# Altium integrated library ON Semi Transient Voltage Suppressors (TVS).IntLib: 730 symbols (part 3 of 17)
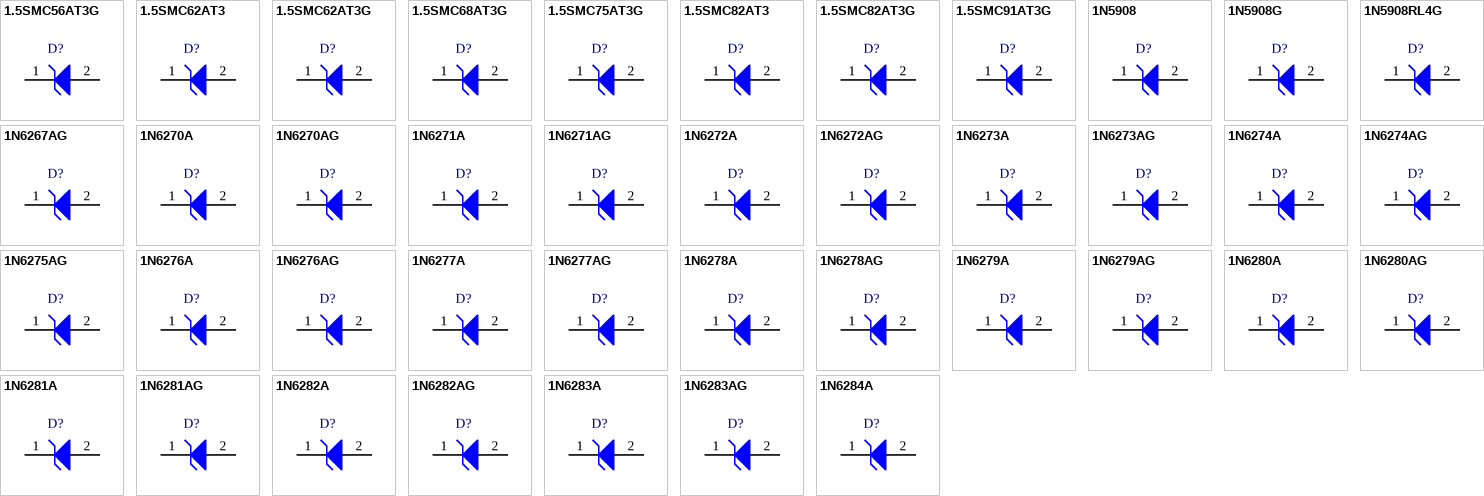
[diagram p20: symbols 1.5SMC56AT3G to 1N6284A]

## 1N6270AG
designator D?
1500 W Mosorb(TM) Zener Transient Voltage Suppressor, Unidirectional, 2-Pin MOSORB, Pb-Free, Bulk Box; Manufacturer: On Semiconductor; PartNumber: 1N6270AG; IR Max (uA): 50; PPK Max (W): 1500; V(BR) Typ (V): 9.1; DatasheetVersion: Rev. 7; PackageVersion: Rev. D, 01/2002; PackageReference: MOSORB-2-41A-04; PackageDescription: 2-Pin, Axial Lead, Diameter 5.05 mm; Supplier 1: Mouser; Supplier Part Number 1: N/A; Direction: Unidirectional; Packing: Bulk Box; RoHS: Pb-Free; Mounting Technology: Through Hole; ComponentLink1Description: Manufacturer URL; ComponentLink1URL: http://www.onsemi.com/; ComponentLink2Description: Datasheet; ComponentLink2URL: http://www.onsemi.com/pub_link/Collateral/1N6267A-D.PDF; ComponentLink3Description: Package Specification; ComponentLink3URL: http://www.onsemi.com/pub_link/Collateral/41A-04.PDF
footprint ONSC-MOSORB-2-41A-04 (AXIAL, 2-Leads, Diameter 5.05mm)
pins: 1 K, 2 A

## 1N6271A
designator D?
1500 W Mosorb(TM) Zener Transient Voltage Suppressor, Unidirectional, 2-Pin MOSORB, Bulk Box; Manufacturer: On Semiconductor; PartNumber: 1N6271A; IR Max (uA): 10; PPK Max (W): 1500; DatasheetVersion: Rev. 7; PackageVersion: Rev. D, 01/2002; PackageReference: MOSORB-2-41A-04; PackageDescription: 2-Pin, Axial Lead, Diameter 5.05 mm; Supplier 1: Digi-Key; Supplier Part Number 1: 1N6271AOS-ND; Direction: Unidirectional; Packing: Bulk Box; V(BR) Typ (V): 10; Mounting Technology: Through Hole; ComponentLink1Description: Manufacturer URL; ComponentLink1URL: http://www.onsemi.com/; ComponentLink2Description: Datasheet; ComponentLink2URL: http://www.onsemi.com/pub_link/Collateral/1N6267A-D.PDF; ComponentLink3Description: Package Specification; ComponentLink3URL: http://www.onsemi.com/pub_link/Collateral/41A-04.PDF
footprint ONSC-MOSORB-2-41A-04 (AXIAL, 2-Leads, Diameter 5.05mm)
pins: 1 K, 2 A

## 1N6271AG
designator D?
1500 W Mosorb(TM) Zener Transient Voltage Suppressor, Unidirectional, 2-Pin MOSORB, Pb-Free, Bulk Box; Manufacturer: On Semiconductor; PartNumber: 1N6271AG; IR Max (uA): 10; PPK Max (W): 1500; DatasheetVersion: Rev. 7; PackageVersion: Rev. D, 01/2002; PackageReference: MOSORB-2-41A-04; PackageDescription: 2-Pin, Axial Lead, Diameter 5.05 mm; Supplier 1: Digi-Key; Supplier Part Number 1: 1N6271AGOS-ND; Supplier 2: Mouser; Supplier Part Number 2: 863-1N6271AG; Direction: Unidirectional; Packing: Bulk Box; RoHS: Pb-Free; V(BR) Typ (V): 10; Mounting Technology: Through Hole; ComponentLink1Description: Manufacturer URL; ComponentLink1URL: http://www.onsemi.com/; ComponentLink2Description: Datasheet; ComponentLink2URL: http://www.onsemi.com/pub_link/Collateral/1N6267A-D.PDF; ComponentLink3Description: Package Specification; ComponentLink3URL: http://www.onsemi.com/pub_link/Collateral/41A-04.PDF
footprint ONSC-MOSORB-2-41A-04 (AXIAL, 2-Leads, Diameter 5.05mm)
pins: 1 K, 2 A

## 1N6272A
designator D?
1500 W Mosorb(TM) Zener Transient Voltage Suppressor, Unidirectional, 2-Pin MOSORB, Bulk Box; Manufacturer: On Semiconductor; PartNumber: 1N6272A; IR Max (uA): 5; PPK Max (W): 1500; V(BR) Typ (V): 11; DatasheetVersion: Rev. 7; PackageVersion: Rev. D, 01/2002; PackageReference: MOSORB-2-41A-04; PackageDescription: 2-Pin, Axial Lead, Diameter 5.05 mm; Supplier 1: Digi-Key; Supplier Part Number 1: 1N6272A-ND; Supplier 2: Newark; Supplier Part Number 2: 09F4680; Direction: Unidirectional; Packing: Bulk Box; Mounting Technology: Through Hole; ComponentLink1Description: Manufacturer URL; ComponentLink1URL: http://www.onsemi.com/; ComponentLink2Description: Datasheet; ComponentLink2URL: http://www.onsemi.com/pub_link/Collateral/1N6267A-D.PDF; ComponentLink3Description: Package Specification; ComponentLink3URL: http://www.onsemi.com/pub_link/Collateral/41A-04.PDF
footprint ONSC-MOSORB-2-41A-04 (AXIAL, 2-Leads, Diameter 5.05mm)
pins: 1 K, 2 A

## 1N6272AG
designator D?
1500 W Mosorb(TM) Zener Transient Voltage Suppressor, Unidirectional, 2-Pin MOSORB, Pb-Free, Bulk Box; Manufacturer: On Semiconductor; PartNumber: 1N6272AG; IR Max (uA): 5; PPK Max (W): 1500; V(BR) Typ (V): 11; DatasheetVersion: Rev. 7; PackageVersion: Rev. D, 01/2002; PackageReference: MOSORB-2-41A-04; PackageDescription: 2-Pin, Axial Lead, Diameter 5.05 mm; Supplier 1: Digi-Key; Supplier Part Number 1: 1N6272AG-ND; Supplier 2: Mouser; Supplier Part Number 2: 863-1N6272AG; Direction: Unidirectional; Packing: Bulk Box; RoHS: Pb-Free; Mounting Technology: Through Hole; ComponentLink1Description: Manufacturer URL; ComponentLink1URL: http://www.onsemi.com/; ComponentLink2Description: Datasheet; ComponentLink2URL: http://www.onsemi.com/pub_link/Collateral/1N6267A-D.PDF; ComponentLink3Description: Package Specification; ComponentLink3URL: http://www.onsemi.com/pub_link/Collateral/41A-04.PDF
footprint ONSC-MOSORB-2-41A-04 (AXIAL, 2-Leads, Diameter 5.05mm)
pins: 1 K, 2 A

## 1N6273A
designator D?
1500 W Mosorb(TM) Zener Transient Voltage Suppressor, Unidirectional, 2-Pin MOSORB, Bulk Box; Manufacturer: On Semiconductor; PartNumber: 1N6273A; IR Max (uA): 5; PPK Max (W): 1500; V(BR) Typ (V): 12; DatasheetVersion: Rev. 7; PackageVersion: Rev. D, 01/2002; PackageReference: MOSORB-2-41A-04; PackageDescription: 2-Pin, Axial Lead, Diameter 5.05 mm; Direction: Unidirectional; Packing: Bulk Box; Mounting Technology: Through Hole; ComponentLink1Description: Manufacturer URL; ComponentLink1URL: http://www.onsemi.com/; ComponentLink2Description: Datasheet; ComponentLink2URL: http://www.onsemi.com/pub_link/Collateral/1N6267A-D.PDF; ComponentLink3Description: Package Specification; ComponentLink3URL: http://www.onsemi.com/pub_link/Collateral/41A-04.PDF
footprint ONSC-MOSORB-2-41A-04 (AXIAL, 2-Leads, Diameter 5.05mm)
pins: 1 K, 2 A

## 1N6273AG
designator D?
1500 W Mosorb(TM) Zener Transient Voltage Suppressor, Unidirectional, 2-Pin MOSORB, Pb-Free, Bulk Box; Manufacturer: On Semiconductor; PartNumber: 1N6273AG; IR Max (uA): 5; PPK Max (W): 1500; V(BR) Typ (V): 12; DatasheetVersion: Rev. 7; PackageVersion: Rev. D, 01/2002; PackageReference: MOSORB-2-41A-04; PackageDescription: 2-Pin, Axial Lead, Diameter 5.05 mm; Direction: Unidirectional; Packing: Bulk Box; RoHS: Pb-Free; Mounting Technology: Through Hole; ComponentLink1Description: Manufacturer URL; ComponentLink1URL: http://www.onsemi.com/; ComponentLink2Description: Datasheet; ComponentLink2URL: http://www.onsemi.com/pub_link/Collateral/1N6267A-D.PDF; ComponentLink3Description: Package Specification; ComponentLink3URL: http://www.onsemi.com/pub_link/Collateral/41A-04.PDF
footprint ONSC-MOSORB-2-41A-04 (AXIAL, 2-Leads, Diameter 5.05mm)
pins: 1 K, 2 A

## 1N6274A
designator D?
1500 W Mosorb(TM) Zener Transient Voltage Suppressor, Unidirectional, 2-Pin MOSORB, Bulk Box; Manufacturer: On Semiconductor; PartNumber: 1N6274A; IR Max (uA): 5; PPK Max (W): 1500; V(BR) Typ (V): 13; DatasheetVersion: Rev. 7; PackageVersion: Rev. D, 01/2002; PackageReference: MOSORB-2-41A-04; PackageDescription: 2-Pin, Axial Lead, Diameter 5.05 mm; Supplier 1: Digi-Key; Supplier Part Number 1: 1N6274AOS-ND; Supplier 2: Mouser; Supplier Part Number 2: 863-1N6274A; Direction: Unidirectional; Packing: Bulk Box; Mounting Technology: Through Hole; ComponentLink1Description: Manufacturer URL; ComponentLink1URL: http://www.onsemi.com/; ComponentLink2Description: Datasheet; ComponentLink2URL: http://www.onsemi.com/pub_link/Collateral/1N6267A-D.PDF; ComponentLink3Description: Package Specification; ComponentLink3URL: http://www.onsemi.com/pub_link/Collateral/41A-04.PDF
footprint ONSC-MOSORB-2-41A-04 (AXIAL, 2-Leads, Diameter 5.05mm)
pins: 1 K, 2 A

## 1N6274AG
designator D?
1500 W Mosorb(TM) Zener Transient Voltage Suppressor, Unidirectional, 2-Pin MOSORB, Pb-Free, Bulk Box; Manufacturer: On Semiconductor; PartNumber: 1N6274AG; IR Max (uA): 5; PPK Max (W): 1500; V(BR) Typ (V): 13; DatasheetVersion: Rev. 7; PackageVersion: Rev. D, 01/2002; PackageReference: MOSORB-2-41A-04; PackageDescription: 2-Pin, Axial Lead, Diameter 5.05 mm; Supplier 1: Digi-Key; Supplier Part Number 1: 1N6274AGOS-ND; Supplier 2: Mouser; Supplier Part Number 2: 863-1N6274AG; Direction: Unidirectional; Packing: Bulk Box; RoHS: Pb-Free; Mounting Technology: Through Hole; ComponentLink1Description: Manufacturer URL; ComponentLink1URL: http://www.onsemi.com/; ComponentLink2Description: Datasheet; ComponentLink2URL: http://www.onsemi.com/pub_link/Collateral/1N6267A-D.PDF; ComponentLink3Description: Package Specification; ComponentLink3URL: http://www.onsemi.com/pub_link/Collateral/41A-04.PDF
footprint ONSC-MOSORB-2-41A-04 (AXIAL, 2-Leads, Diameter 5.05mm)
pins: 1 K, 2 A

## 1N6275AG
designator D?
1500 W Mosorb(TM) Zener Transient Voltage Suppressor, Unidirectional, 2-Pin MOSORB, Pb-Free, Bulk Box; Manufacturer: On Semiconductor; PartNumber: 1N6275AG; IR Max (uA): 5; PPK Max (W): 1500; V(BR) Typ (V): 15; DatasheetVersion: Rev. 13; PackageVersion: Rev. D, 01/2002; PackageReference: MOSORB-2-41A-04; PackageDescription: 2-Pin, Axial Lead, Diameter 5.05 mm; Supplier 1: Digi-Key; Supplier Part Number 1: 1N6275AGOS-ND; Supplier 2: Farnell; Supplier Part Number 2: 1458997; Supplier 3: Newark; Supplier Part Number 3: 42K3010; Supplier 4: Mouser; Supplier Part Number 4: 863-1N6275AG; Direction: Unidirectional; Packing: Bulk Box; RoHS: Pb-Free; Mounting Technology: Through Hole; ComponentLink1Description: Manufacturer URL; ComponentLink1URL: http://www.onsemi.com/; ComponentLink2Description: Datasheet; ComponentLink2URL: http://www.onsemi.com/pub_link/Collateral/1N6267A.PDF; ComponentLink3Description: Package Specification; ComponentLink3URL: http://www.onsemi.com/pub_link/Collateral/41A-04.PDF
footprint ONSC-MOSORB-2-41A-04 (AXIAL, 2-Leads, Diameter 5.05mm)
pins: 1 K, 2 A

## 1N6276A
designator D?
1500 W Mosorb(TM) Zener Transient Voltage Suppressor, Unidirectional, 2-Pin MOSORB, Bulk Box; Manufacturer: On Semiconductor; PartNumber: 1N6276A; IR Max (uA): 5; PPK Max (W): 1500; V(BR) Typ (V): 16; DatasheetVersion: Rev. 7; PackageVersion: Rev. D, 01/2002; PackageReference: MOSORB-2-41A-04; PackageDescription: 2-Pin, Axial Lead, Diameter 5.05 mm; Supplier 1: Digi-Key; Supplier Part Number 1: 1N6276AOS-ND; Direction: Unidirectional; Packing: Bulk Box; Mounting Technology: Through Hole; ComponentLink1Description: Manufacturer URL; ComponentLink1URL: http://www.onsemi.com/; ComponentLink2Description: Datasheet; ComponentLink2URL: http://www.onsemi.com/pub_link/Collateral/1N6267A-D.PDF; ComponentLink3Description: Package Specification; ComponentLink3URL: http://www.onsemi.com/pub_link/Collateral/41A-04.PDF
footprint ONSC-MOSORB-2-41A-04 (AXIAL, 2-Leads, Diameter 5.05mm)
pins: 1 K, 2 A

## 1N6276AG
designator D?
1500 W Mosorb(TM) Zener Transient Voltage Suppressor, Unidirectional, 2-Pin MOSORB, Pb-Free, Bulk Box; Manufacturer: On Semiconductor; PartNumber: 1N6276AG; IR Max (uA): 5; PPK Max (W): 1500; V(BR) Typ (V): 16; DatasheetVersion: Rev. 7; PackageVersion: Rev. D, 01/2002; PackageReference: MOSORB-2-41A-04; PackageDescription: 2-Pin, Axial Lead, Diameter 5.05 mm; Supplier 1: Digi-Key; Supplier Part Number 1: 1N6276AGOS-ND; Supplier 2: Farnell; Supplier Part Number 2: 1458998; Supplier 3: Newark; Supplier Part Number 3: 42K3012; Supplier 4: Mouser; Supplier Part Number 4: 863-1N6276AG; Direction: Unidirectional; Packing: Bulk Box; RoHS: Pb-Free; Mounting Technology: Through Hole; ComponentLink1Description: Manufacturer URL; ComponentLink1URL: http://www.onsemi.com/; ComponentLink2Description: Datasheet; ComponentLink2URL: http://www.onsemi.com/pub_link/Collateral/1N6267A-D.PDF; ComponentLink3Description: Package Specification; ComponentLink3URL: http://www.onsemi.com/pub_link/Collateral/41A-04.PDF
footprint ONSC-MOSORB-2-41A-04 (AXIAL, 2-Leads, Diameter 5.05mm)
pins: 1 K, 2 A

## 1N6277A
designator D?
1500 W Mosorb(TM) Zener Transient Voltage Suppressor, Unidirectional, 2-Pin MOSORB, Bulk Box; Manufacturer: On Semiconductor; PartNumber: 1N6277A; IR Max (uA): 5; PPK Max (W): 1500; V(BR) Typ (V): 18; DatasheetVersion: Rev. 7; PackageVersion: Rev. D, 01/2002; PackageReference: MOSORB-2-41A-04; PackageDescription: 2-Pin, Axial Lead, Diameter 5.05 mm; Supplier 1: Digi-Key; Supplier Part Number 1: 1N6277AOS-ND; Direction: Unidirectional; Packing: Bulk Box; Mounting Technology: Through Hole; ComponentLink1Description: Manufacturer URL; ComponentLink1URL: http://www.onsemi.com/; ComponentLink2Description: Datasheet; ComponentLink2URL: http://www.onsemi.com/pub_link/Collateral/1N6267A-D.PDF; ComponentLink3Description: Package Specification; ComponentLink3URL: http://www.onsemi.com/pub_link/Collateral/41A-04.PDF
footprint ONSC-MOSORB-2-41A-04 (AXIAL, 2-Leads, Diameter 5.05mm)
pins: 1 K, 2 A

## 1N6277AG
designator D?
1500 W Mosorb(TM) Zener Transient Voltage Suppressor, Unidirectional, 2-Pin MOSORB, Pb-Free, Bulk Box; Manufacturer: On Semiconductor; PartNumber: 1N6277AG; IR Max (uA): 5; PPK Max (W): 1500; V(BR) Typ (V): 18; DatasheetVersion: Rev. 7; PackageVersion: Rev. D, 01/2002; PackageReference: MOSORB-2-41A-04; PackageDescription: 2-Pin, Axial Lead, Diameter 5.05 mm; Supplier 1: Digi-Key; Supplier Part Number 1: 1N6277AGOS-ND; Supplier 2: Farnell; Supplier Part Number 2: 1458999; Supplier 3: Newark; Supplier Part Number 3: 42K3014; Supplier 4: Mouser; Supplier Part Number 4: 863-1N6277AG; Direction: Unidirectional; Packing: Bulk Box; RoHS: Pb-Free; Mounting Technology: Through Hole; ComponentLink1Description: Manufacturer URL; ComponentLink1URL: http://www.onsemi.com/; ComponentLink2Description: Datasheet; ComponentLink2URL: http://www.onsemi.com/pub_link/Collateral/1N6267A-D.PDF; ComponentLink3Description: Package Specification; ComponentLink3URL: http://www.onsemi.com/pub_link/Collateral/41A-04.PDF
footprint ONSC-MOSORB-2-41A-04 (AXIAL, 2-Leads, Diameter 5.05mm)
pins: 1 K, 2 A

## 1N6278A
designator D?
1500 W Mosorb(TM) Zener Transient Voltage Suppressor, Unidirectional, 2-Pin MOSORB, Bulk Box; Manufacturer: On Semiconductor; PartNumber: 1N6278A; IR Max (uA): 5; PPK Max (W): 1500; V(BR) Typ (V): 20; DatasheetVersion: Rev. 7; PackageVersion: Rev. D, 01/2002; PackageReference: MOSORB-2-41A-04; PackageDescription: 2-Pin, Axial Lead, Diameter 5.05 mm; Supplier 1: Digi-Key; Supplier Part Number 1: 1N6278A-ND; Direction: Unidirectional; Packing: Bulk Box; Mounting Technology: Through Hole; ComponentLink1Description: Manufacturer URL; ComponentLink1URL: http://www.onsemi.com/; ComponentLink2Description: Datasheet; ComponentLink2URL: http://www.onsemi.com/pub_link/Collateral/1N6267A-D.PDF; ComponentLink3Description: Package Specification; ComponentLink3URL: http://www.onsemi.com/pub_link/Collateral/41A-04.PDF
footprint ONSC-MOSORB-2-41A-04 (AXIAL, 2-Leads, Diameter 5.05mm)
pins: 1 K, 2 A

## 1N6278AG
designator D?
1500 W Mosorb(TM) Zener Transient Voltage Suppressor, Unidirectional, 2-Pin MOSORB, Pb-Free, Bulk Box; Manufacturer: On Semiconductor; PartNumber: 1N6278AG; IR Max (uA): 5; PPK Max (W): 1500; V(BR) Typ (V): 20; DatasheetVersion: Rev. 7; PackageVersion: Rev. D, 01/2002; PackageReference: MOSORB-2-41A-04; PackageDescription: 2-Pin, Axial Lead, Diameter 5.05 mm; Supplier 1: Digi-Key; Supplier Part Number 1: 1N6278AGOS-ND; Supplier 2: Newark; Supplier Part Number 2: 42K3016; Supplier 3: Mouser; Supplier Part Number 3: 863-1N6278AG; Direction: Unidirectional; Packing: Bulk Box; RoHS: Pb-Free; Mounting Technology: Through Hole; ComponentLink1Description: Manufacturer URL; ComponentLink1URL: http://www.onsemi.com/; ComponentLink2Description: Datasheet; ComponentLink2URL: http://www.onsemi.com/pub_link/Collateral/1N6267A-D.PDF; ComponentLink3Description: Package Specification; ComponentLink3URL: http://www.onsemi.com/pub_link/Collateral/41A-04.PDF
footprint ONSC-MOSORB-2-41A-04 (AXIAL, 2-Leads, Diameter 5.05mm)
pins: 1 K, 2 A

## 1N6279A
designator D?
1500 W Mosorb(TM) Zener Transient Voltage Suppressor, Unidirectional, 2-Pin MOSORB, Bulk Box; Manufacturer: On Semiconductor; PartNumber: 1N6279A; IR Max (uA): 5; PPK Max (W): 1500; V(BR) Typ (V): 22; DatasheetVersion: Rev. 7; PackageVersion: Rev. D, 01/2002; PackageReference: MOSORB-2-41A-04; PackageDescription: 2-Pin, Axial Lead, Diameter 5.05 mm; Supplier 1: Digi-Key; Supplier Part Number 1: 1N6279A-ND; Direction: Unidirectional; Packing: Bulk Box; Mounting Technology: Through Hole; ComponentLink1Description: Manufacturer URL; ComponentLink1URL: http://www.onsemi.com/; ComponentLink2Description: Datasheet; ComponentLink2URL: http://www.onsemi.com/pub_link/Collateral/1N6267A-D.PDF; ComponentLink3Description: Package Specification; ComponentLink3URL: http://www.onsemi.com/pub_link/Collateral/41A-04.PDF
footprint ONSC-MOSORB-2-41A-04 (AXIAL, 2-Leads, Diameter 5.05mm)
pins: 1 K, 2 A

## 1N6279AG
designator D?
1500 W Mosorb(TM) Zener Transient Voltage Suppressor, Unidirectional, 2-Pin MOSORB, Pb-Free, Bulk Box; Manufacturer: On Semiconductor; PartNumber: 1N6279AG; IR Max (uA): 5; PPK Max (W): 1500; V(BR) Typ (V): 22; DatasheetVersion: Rev. 7; PackageVersion: Rev. D, 01/2002; PackageReference: MOSORB-2-41A-04; PackageDescription: 2-Pin, Axial Lead, Diameter 5.05 mm; Supplier 1: Digi-Key; Supplier Part Number 1: 1N6279AGOS-ND; Supplier 2: Farnell; Supplier Part Number 2: 1136135; Supplier 3: Newark; Supplier Part Number 3: 42K3018; Supplier 4: Mouser; Supplier Part Number 4: 863-1N6279AG; Direction: Unidirectional; Packing: Bulk Box; RoHS: Pb-Free; Mounting Technology: Through Hole; ComponentLink1Description: Manufacturer URL; ComponentLink1URL: http://www.onsemi.com/; ComponentLink2Description: Datasheet; ComponentLink2URL: http://www.onsemi.com/pub_link/Collateral/1N6267A-D.PDF; ComponentLink3Description: Package Specification; ComponentLink3URL: http://www.onsemi.com/pub_link/Collateral/41A-04.PDF
footprint ONSC-MOSORB-2-41A-04 (AXIAL, 2-Leads, Diameter 5.05mm)
pins: 1 K, 2 A

## 1N6280A
designator D?
1500 W Mosorb(TM) Zener Transient Voltage Suppressor, Unidirectional, 2-Pin MOSORB, Bulk Box; Manufacturer: On Semiconductor; PartNumber: 1N6280A; IR Max (uA): 5; PPK Max (W): 1500; V(BR) Typ (V): 24; DatasheetVersion: Rev. 7; PackageVersion: Rev. D, 01/2002; PackageReference: MOSORB-2-41A-04; PackageDescription: 2-Pin, Axial Lead, Diameter 5.05 mm; Supplier 1: Digi-Key; Supplier Part Number 1: 1N6280AOS-ND; Supplier 2: Newark; Supplier Part Number 2: 09F4693; Direction: Unidirectional; Packing: Bulk Box; Mounting Technology: Through Hole; ComponentLink1Description: Manufacturer URL; ComponentLink1URL: http://www.onsemi.com/; ComponentLink2Description: Datasheet; ComponentLink2URL: http://www.onsemi.com/pub_link/Collateral/1N6267A-D.PDF; ComponentLink3Description: Package Specification; ComponentLink3URL: http://www.onsemi.com/pub_link/Collateral/41A-04.PDF
footprint ONSC-MOSORB-2-41A-04 (AXIAL, 2-Leads, Diameter 5.05mm)
pins: 1 K, 2 A

## 1N6280AG
designator D?
1500 W Mosorb(TM) Zener Transient Voltage Suppressor, Unidirectional, 2-Pin MOSORB, Pb-Free, Bulk Box; Manufacturer: On Semiconductor; PartNumber: 1N6280AG; IR Max (uA): 5; PPK Max (W): 1500; V(BR) Typ (V): 24; DatasheetVersion: Rev. 7; PackageVersion: Rev. D, 01/2002; PackageReference: MOSORB-2-41A-04; PackageDescription: 2-Pin, Axial Lead, Diameter 5.05 mm; Supplier 1: Digi-Key; Supplier Part Number 1: 1N6280AG-ND; Supplier 2: Mouser; Supplier Part Number 2: 863-1N6280AG; Direction: Unidirectional; Packing: Bulk Box; RoHS: Pb-Free; Mounting Technology: Through Hole; ComponentLink1Description: Manufacturer URL; ComponentLink1URL: http://www.onsemi.com/; ComponentLink2Description: Datasheet; ComponentLink2URL: http://www.onsemi.com/pub_link/Collateral/1N6267A-D.PDF; ComponentLink3Description: Package Specification; ComponentLink3URL: http://www.onsemi.com/pub_link/Collateral/41A-04.PDF
footprint ONSC-MOSORB-2-41A-04 (AXIAL, 2-Leads, Diameter 5.05mm)
pins: 1 K, 2 A

## 1N6281A
designator D?
1500 W Mosorb(TM) Zener Transient Voltage Suppressor, Unidirectional, 2-Pin MOSORB, Bulk Box; Manufacturer: On Semiconductor; PartNumber: 1N6281A; IR Max (uA): 5; PPK Max (W): 1500; V(BR) Typ (V): 27; DatasheetVersion: Rev. 7; PackageVersion: Rev. D, 01/2002; PackageReference: MOSORB-2-41A-04; PackageDescription: 2-Pin, Axial Lead, Diameter 5.05 mm; Supplier 1: Digi-Key; Supplier Part Number 1: 1N6281AOS-ND; Direction: Unidirectional; Packing: Bulk Box; Mounting Technology: Through Hole; ComponentLink1Description: Manufacturer URL; ComponentLink1URL: http://www.onsemi.com/; ComponentLink2Description: Datasheet; ComponentLink2URL: http://www.onsemi.com/pub_link/Collateral/1N6267A-D.PDF; ComponentLink3Description: Package Specification; ComponentLink3URL: http://www.onsemi.com/pub_link/Collateral/41A-04.PDF
footprint ONSC-MOSORB-2-41A-04 (AXIAL, 2-Leads, Diameter 5.05mm)
pins: 1 K, 2 A

## 1N6281AG
designator D?
1500 W Mosorb(TM) Zener Transient Voltage Suppressor, Unidirectional, 2-Pin MOSORB, Pb-Free, Bulk Box; Manufacturer: On Semiconductor; PartNumber: 1N6281AG; IR Max (uA): 5; PPK Max (W): 1500; V(BR) Typ (V): 27; DatasheetVersion: Rev. 7; PackageVersion: Rev. D, 01/2002; PackageReference: MOSORB-2-41A-04; PackageDescription: 2-Pin, Axial Lead, Diameter 5.05 mm; Supplier 1: Digi-Key; Supplier Part Number 1: 1N6281AGOS-ND; Supplier 2: Farnell; Supplier Part Number 2: 1126338; Supplier 3: Newark; Supplier Part Number 3: 42K3021; Supplier 4: Mouser; Supplier Part Number 4: 863-1N6281AG; Direction: Unidirectional; Packing: Bulk Box; RoHS: Pb-Free; Mounting Technology: Through Hole; ComponentLink1Description: Manufacturer URL; ComponentLink1URL: http://www.onsemi.com/; ComponentLink2Description: Datasheet; ComponentLink2URL: http://www.onsemi.com/pub_link/Collateral/1N6267A-D.PDF; ComponentLink3Description: Package Specification; ComponentLink3URL: http://www.onsemi.com/pub_link/Collateral/41A-04.PDF
footprint ONSC-MOSORB-2-41A-04 (AXIAL, 2-Leads, Diameter 5.05mm)
pins: 1 K, 2 A

## 1N6282A
designator D?
1500 W Mosorb(TM) Zener Transient Voltage Suppressor, Unidirectional, 2-Pin MOSORB, Bulk Box; Manufacturer: On Semiconductor; PartNumber: 1N6282A; IR Max (uA): 5; PPK Max (W): 1500; V(BR) Typ (V): 30; DatasheetVersion: Rev. 7; PackageVersion: Rev. D, 01/2002; PackageReference: MOSORB-2-41A-04; PackageDescription: 2-Pin, Axial Lead, Diameter 5.05 mm; Supplier 1: Digi-Key; Supplier Part Number 1: 1N6282AOS-ND; Direction: Unidirectional; Packing: Bulk Box; Mounting Technology: Through Hole; ComponentLink1Description: Manufacturer URL; ComponentLink1URL: http://www.onsemi.com/; ComponentLink2Description: Datasheet; ComponentLink2URL: http://www.onsemi.com/pub_link/Collateral/1N6267A-D.PDF; ComponentLink3Description: Package Specification; ComponentLink3URL: http://www.onsemi.com/pub_link/Collateral/41A-04.PDF
footprint ONSC-MOSORB-2-41A-04 (AXIAL, 2-Leads, Diameter 5.05mm)
pins: 1 K, 2 A

## 1N6282AG
designator D?
1500 W Mosorb(TM) Zener Transient Voltage Suppressor, Unidirectional, 2-Pin MOSORB, Pb-Free, Bulk Box; Manufacturer: On Semiconductor; PartNumber: 1N6282AG; IR Max (uA): 5; PPK Max (W): 1500; V(BR) Typ (V): 30; DatasheetVersion: Rev. 7; PackageVersion: Rev. D, 01/2002; PackageReference: MOSORB-2-41A-04; PackageDescription: 2-Pin, Axial Lead, Diameter 5.05 mm; Supplier 1: Digi-Key; Supplier Part Number 1: 1N6282AGOS-ND; Supplier 2: Farnell; Supplier Part Number 2: 1459000; Supplier 3: Newark; Supplier Part Number 3: 42K3023; Supplier 4: Mouser; Supplier Part Number 4: 863-1N6282AG; Direction: Unidirectional; Packing: Bulk Box; RoHS: Pb-Free; Mounting Technology: Through Hole; ComponentLink1Description: Manufacturer URL; ComponentLink1URL: http://www.onsemi.com/; ComponentLink2Description: Datasheet; ComponentLink2URL: http://www.onsemi.com/pub_link/Collateral/1N6267A-D.PDF; ComponentLink3Description: Package Specification; ComponentLink3URL: http://www.onsemi.com/pub_link/Collateral/41A-04.PDF
footprint ONSC-MOSORB-2-41A-04 (AXIAL, 2-Leads, Diameter 5.05mm)
pins: 1 K, 2 A

## 1N6283A
designator D?
1500 W Mosorb(TM) Zener Transient Voltage Suppressor, Unidirectional, 2-Pin MOSORB, Bulk Box; Manufacturer: On Semiconductor; PartNumber: 1N6283A; IR Max (uA): 5; PPK Max (W): 1500; V(BR) Typ (V): 33; DatasheetVersion: Rev. 7; PackageVersion: Rev. D, 01/2002; PackageReference: MOSORB-2-41A-04; PackageDescription: 2-Pin, Axial Lead, Diameter 5.05 mm; Supplier 1: Digi-Key; Supplier Part Number 1: 1N6283AOS-ND; Direction: Unidirectional; Packing: Bulk Box; Mounting Technology: Through Hole; ComponentLink1Description: Manufacturer URL; ComponentLink1URL: http://www.onsemi.com/; ComponentLink2Description: Datasheet; ComponentLink2URL: http://www.onsemi.com/pub_link/Collateral/1N6267A-D.PDF; ComponentLink3Description: Package Specification; ComponentLink3URL: http://www.onsemi.com/pub_link/Collateral/41A-04.PDF
footprint ONSC-MOSORB-2-41A-04 (AXIAL, 2-Leads, Diameter 5.05mm)
pins: 1 K, 2 A

## 1N6283AG
designator D?
1500 W Mosorb(TM) Zener Transient Voltage Suppressor, Unidirectional, 2-Pin MOSORB, Pb-Free, Bulk Box; Manufacturer: On Semiconductor; PartNumber: 1N6283AG; IR Max (uA): 5; PPK Max (W): 1500; V(BR) Typ (V): 33; DatasheetVersion: Rev. 7; PackageVersion: Rev. D, 01/2002; PackageReference: MOSORB-2-41A-04; PackageDescription: 2-Pin, Axial Lead, Diameter 5.05 mm; Supplier 1: Digi-Key; Supplier Part Number 1: 1N6283AGOS-ND; Supplier 2: Farnell; Supplier Part Number 2: 1459002; Supplier 3: Newark; Supplier Part Number 3: 42K3025; Supplier 4: Mouser; Supplier Part Number 4: 863-1N6283AG; Direction: Unidirectional; Packing: Bulk Box; RoHS: Pb-Free; Mounting Technology: Through Hole; ComponentLink1Description: Manufacturer URL; ComponentLink1URL: http://www.onsemi.com/; ComponentLink2Description: Datasheet; ComponentLink2URL: http://www.onsemi.com/pub_link/Collateral/1N6267A-D.PDF; ComponentLink3Description: Package Specification; ComponentLink3URL: http://www.onsemi.com/pub_link/Collateral/41A-04.PDF
footprint ONSC-MOSORB-2-41A-04 (AXIAL, 2-Leads, Diameter 5.05mm)
pins: 1 K, 2 A

## 1N6284A
designator D?
1500 W Mosorb(TM) Zener Transient Voltage Suppressor, Unidirectional, 2-Pin MOSORB, Bulk Box; Manufacturer: On Semiconductor; PartNumber: 1N6284A; IR Max (uA): 5; PPK Max (W): 1500; V(BR) Typ (V): 36; DatasheetVersion: Rev. 7; PackageVersion: Rev. D, 01/2002; PackageReference: MOSORB-2-41A-04; PackageDescription: 2-Pin, Axial Lead, Diameter 5.05 mm; Supplier 1: Digi-Key; Supplier Part Number 1: 1N6284AOS-ND; Direction: Unidirectional; Packing: Bulk Box; Mounting Technology: Through Hole; ComponentLink1Description: Manufacturer URL; ComponentLink1URL: http://www.onsemi.com/; ComponentLink2Description: Datasheet; ComponentLink2URL: http://www.onsemi.com/pub_link/Collateral/1N6267A-D.PDF; ComponentLink3Description: Package Specification; ComponentLink3URL: http://www.onsemi.com/pub_link/Collateral/41A-04.PDF
footprint ONSC-MOSORB-2-41A-04 (AXIAL, 2-Leads, Diameter 5.05mm)
pins: 1 K, 2 A

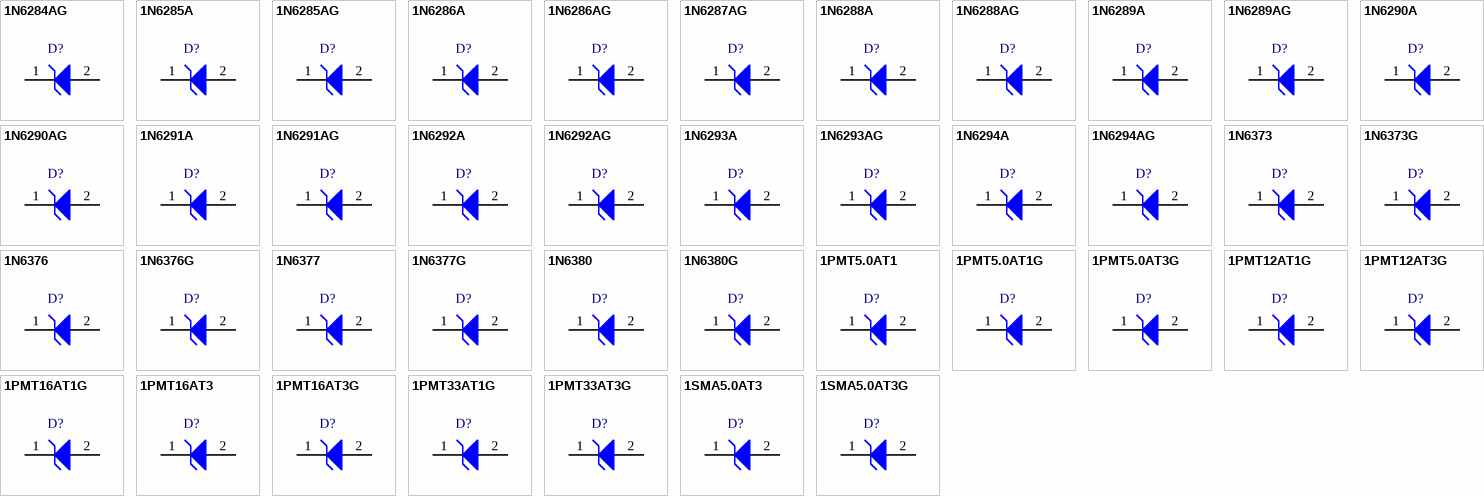
[diagram p3: symbols 1N6284AG to 1SMA5.0AT3G]

## 1N6284AG
designator D?
1500 W Mosorb(TM) Zener Transient Voltage Suppressor, Unidirectional, 2-Pin MOSORB, Pb-Free, Bulk Box; Manufacturer: On Semiconductor; PartNumber: 1N6284AG; IR Max (uA): 5; PPK Max (W): 1500; V(BR) Typ (V): 36; DatasheetVersion: Rev. 7; PackageVersion: Rev. D, 01/2002; PackageReference: MOSORB-2-41A-04; PackageDescription: 2-Pin, Axial Lead, Diameter 5.05 mm; Supplier 1: Digi-Key; Supplier Part Number 1: 1N6284AGOS-ND; Supplier 2: Farnell; Supplier Part Number 2: 1459003; Supplier 3: Newark; Supplier Part Number 3: 42K3027; Supplier 4: Mouser; Supplier Part Number 4: 863-1N6284AG; Direction: Unidirectional; Packing: Bulk Box; RoHS: Pb-Free; Mounting Technology: Through Hole; ComponentLink1Description: Manufacturer URL; ComponentLink1URL: http://www.onsemi.com/; ComponentLink2Description: Datasheet; ComponentLink2URL: http://www.onsemi.com/pub_link/Collateral/1N6267A-D.PDF; ComponentLink3Description: Package Specification; ComponentLink3URL: http://www.onsemi.com/pub_link/Collateral/41A-04.PDF
footprint ONSC-MOSORB-2-41A-04 (AXIAL, 2-Leads, Diameter 5.05mm)
pins: 1 K, 2 A

## 1N6285A
designator D?
1500 W Mosorb(TM) Zener Transient Voltage Suppressor, Unidirectional, 2-Pin MOSORB, Bulk Box; Manufacturer: On Semiconductor; PartNumber: 1N6285A; IR Max (uA): 5; PPK Max (W): 1500; V(BR) Typ (V): 39; DatasheetVersion: Rev. 7; PackageVersion: Rev. D, 01/2002; PackageReference: MOSORB-2-41A-04; PackageDescription: 2-Pin, Axial Lead, Diameter 5.05 mm; Supplier 1: Digi-Key; Supplier Part Number 1: 1N6285AOS-ND; Direction: Unidirectional; Packing: Bulk Box; Mounting Technology: Through Hole; ComponentLink1Description: Manufacturer URL; ComponentLink1URL: http://www.onsemi.com/; ComponentLink2Description: Datasheet; ComponentLink2URL: http://www.onsemi.com/pub_link/Collateral/1N6267A-D.PDF; ComponentLink3Description: Package Specification; ComponentLink3URL: http://www.onsemi.com/pub_link/Collateral/41A-04.PDF
footprint ONSC-MOSORB-2-41A-04 (AXIAL, 2-Leads, Diameter 5.05mm)
pins: 1 K, 2 A

## 1N6285AG
designator D?
1500 W Mosorb(TM) Zener Transient Voltage Suppressor, Unidirectional, 2-Pin MOSORB, Pb-Free, Bulk Box; Manufacturer: On Semiconductor; PartNumber: 1N6285AG; IR Max (uA): 5; PPK Max (W): 1500; V(BR) Typ (V): 39; DatasheetVersion: Rev. 7; PackageVersion: Rev. D, 01/2002; PackageReference: MOSORB-2-41A-04; PackageDescription: 2-Pin, Axial Lead, Diameter 5.05 mm; Supplier 1: Digi-Key; Supplier Part Number 1: 1N6285AGOS-ND; Supplier 2: Farnell; Supplier Part Number 2: 1703014; Supplier 3: Newark; Supplier Part Number 3: 42K3029; Supplier 4: Mouser; Supplier Part Number 4: 863-1N6285AG; Direction: Unidirectional; Packing: Bulk Box; RoHS: Pb-Free; Mounting Technology: Through Hole; ComponentLink1Description: Manufacturer URL; ComponentLink1URL: http://www.onsemi.com/; ComponentLink2Description: Datasheet; ComponentLink2URL: http://www.onsemi.com/pub_link/Collateral/1N6267A-D.PDF; ComponentLink3Description: Package Specification; ComponentLink3URL: http://www.onsemi.com/pub_link/Collateral/41A-04.PDF
footprint ONSC-MOSORB-2-41A-04 (AXIAL, 2-Leads, Diameter 5.05mm)
pins: 1 K, 2 A

## 1N6286A
designator D?
1500 W Mosorb(TM) Zener Transient Voltage Suppressor, Unidirectional, 2-Pin MOSORB, Bulk Box; Manufacturer: On Semiconductor; PartNumber: 1N6286A; IR Max (uA): 5; PPK Max (W): 1500; V(BR) Typ (V): 43; DatasheetVersion: Rev. 7; PackageVersion: Rev. D, 01/2002; PackageReference: MOSORB-2-41A-04; PackageDescription: 2-Pin, Axial Lead, Diameter 5.05 mm; Supplier 1: Digi-Key; Supplier Part Number 1: 1N6286AOS-ND; Direction: Unidirectional; Packing: Bulk Box; Mounting Technology: Through Hole; ComponentLink1Description: Manufacturer URL; ComponentLink1URL: http://www.onsemi.com/; ComponentLink2Description: Datasheet; ComponentLink2URL: http://www.onsemi.com/pub_link/Collateral/1N6267A-D.PDF; ComponentLink3Description: Package Specification; ComponentLink3URL: http://www.onsemi.com/pub_link/Collateral/41A-04.PDF
footprint ONSC-MOSORB-2-41A-04 (AXIAL, 2-Leads, Diameter 5.05mm)
pins: 1 K, 2 A

## 1N6286AG
designator D?
1500 W Mosorb(TM) Zener Transient Voltage Suppressor, Unidirectional, 2-Pin MOSORB, Pb-Free, Bulk Box; Manufacturer: On Semiconductor; PartNumber: 1N6286AG; IR Max (uA): 5; PPK Max (W): 1500; V(BR) Typ (V): 43; DatasheetVersion: Rev. 7; PackageVersion: Rev. D, 01/2002; PackageReference: MOSORB-2-41A-04; PackageDescription: 2-Pin, Axial Lead, Diameter 5.05 mm; Supplier 1: Digi-Key; Supplier Part Number 1: 1N6286AGOS-ND; Supplier 2: Farnell; Supplier Part Number 2: 1101831; Supplier 3: Newark; Supplier Part Number 3: 42K3031; Supplier 4: Mouser; Supplier Part Number 4: 863-1N6286AG; Direction: Unidirectional; Packing: Bulk Box; RoHS: Pb-Free; Mounting Technology: Through Hole; ComponentLink1Description: Manufacturer URL; ComponentLink1URL: http://www.onsemi.com/; ComponentLink2Description: Datasheet; ComponentLink2URL: http://www.onsemi.com/pub_link/Collateral/1N6267A-D.PDF; ComponentLink3Description: Package Specification; ComponentLink3URL: http://www.onsemi.com/pub_link/Collateral/41A-04.PDF
footprint ONSC-MOSORB-2-41A-04 (AXIAL, 2-Leads, Diameter 5.05mm)
pins: 1 K, 2 A

## 1N6287AG
designator D?
1500 W Mosorb(TM) Zener Transient Voltage Suppressor, Unidirectional, 2-Pin MOSORB, Pb-Free, Bulk Box; Manufacturer: On Semiconductor; PartNumber: 1N6287AG; IR Max (uA): 5; PPK Max (W): 1500; V(BR) Typ (V): 47; DatasheetVersion: Rev. 13; PackageVersion: Rev. D, 01/2002; PackageReference: MOSORB-2-41A-04; PackageDescription: 2-Pin, Axial Lead, Diameter 5.05 mm; Supplier 1: Digi-Key; Supplier Part Number 1: 1N6287AGOS-ND; Supplier 2: Farnell; Supplier Part Number 2: 1126342; Supplier 3: Newark; Supplier Part Number 3: 42K3033; Supplier 4: Mouser; Supplier Part Number 4: 863-1N6287AG; Direction: Unidirectional; Packing: Bulk Box; RoHS: Pb-Free; Mounting Technology: Through Hole; ComponentLink1Description: Manufacturer URL; ComponentLink1URL: http://www.onsemi.com/; ComponentLink2Description: Datasheet; ComponentLink2URL: http://www.onsemi.com/pub_link/Collateral/1N6267A.PDF; ComponentLink3Description: Package Specification; ComponentLink3URL: http://www.onsemi.com/pub_link/Collateral/41A-04.PDF
footprint ONSC-MOSORB-2-41A-04 (AXIAL, 2-Leads, Diameter 5.05mm)
pins: 1 K, 2 A

## 1N6288A
designator D?
1500 W Mosorb(TM) Zener Transient Voltage Suppressor, Unidirectional, 2-Pin MOSORB, Bulk Box; Manufacturer: On Semiconductor; PartNumber: 1N6288A; IR Max (uA): 5; PPK Max (W): 1500; V(BR) Typ (V): 51; DatasheetVersion: Rev. 7; PackageVersion: Rev. D, 01/2002; PackageReference: MOSORB-2-41A-04; PackageDescription: 2-Pin, Axial Lead, Diameter 5.05 mm; Supplier 1: Digi-Key; Supplier Part Number 1: 1N6288AOS-ND; Direction: Unidirectional; Packing: Bulk Box; Mounting Technology: Through Hole; ComponentLink1Description: Manufacturer URL; ComponentLink1URL: http://www.onsemi.com/; ComponentLink2Description: Datasheet; ComponentLink2URL: http://www.onsemi.com/pub_link/Collateral/1N6267A-D.PDF; ComponentLink3Description: Package Specification; ComponentLink3URL: http://www.onsemi.com/pub_link/Collateral/41A-04.PDF
footprint ONSC-MOSORB-2-41A-04 (AXIAL, 2-Leads, Diameter 5.05mm)
pins: 1 K, 2 A

## 1N6288AG
designator D?
1500 W Mosorb(TM) Zener Transient Voltage Suppressor, Unidirectional, 2-Pin MOSORB, Pb-Free, Bulk Box; Manufacturer: On Semiconductor; PartNumber: 1N6288AG; IR Max (uA): 5; PPK Max (W): 1500; V(BR) Typ (V): 51; DatasheetVersion: Rev. 7; PackageVersion: Rev. D, 01/2002; PackageReference: MOSORB-2-41A-04; PackageDescription: 2-Pin, Axial Lead, Diameter 5.05 mm; Supplier 1: Digi-Key; Supplier Part Number 1: 1N6288AGOS-ND; Supplier 2: Farnell; Supplier Part Number 2: 1126343; Supplier 3: Newark; Supplier Part Number 3: 42K3035; Supplier 4: Mouser; Supplier Part Number 4: 863-1N6288AG; Direction: Unidirectional; Packing: Bulk Box; RoHS: Pb-Free; Mounting Technology: Through Hole; ComponentLink1Description: Manufacturer URL; ComponentLink1URL: http://www.onsemi.com/; ComponentLink2Description: Datasheet; ComponentLink2URL: http://www.onsemi.com/pub_link/Collateral/1N6267A-D.PDF; ComponentLink3Description: Package Specification; ComponentLink3URL: http://www.onsemi.com/pub_link/Collateral/41A-04.PDF
footprint ONSC-MOSORB-2-41A-04 (AXIAL, 2-Leads, Diameter 5.05mm)
pins: 1 K, 2 A

## 1N6289A
designator D?
1500 W Mosorb(TM) Zener Transient Voltage Suppressor, Unidirectional, 2-Pin MOSORB, Bulk Box; Manufacturer: On Semiconductor; PartNumber: 1N6289A; IR Max (uA): 5; PPK Max (W): 1500; V(BR) Typ (V): 56; DatasheetVersion: Rev. 7; PackageVersion: Rev. D, 01/2002; PackageReference: MOSORB-2-41A-04; PackageDescription: 2-Pin, Axial Lead, Diameter 5.05 mm; Supplier 1: Mouser; Supplier Part Number 1: N/A; Direction: Unidirectional; Packing: Bulk Box; Mounting Technology: Through Hole; ComponentLink1Description: Manufacturer URL; ComponentLink1URL: http://www.onsemi.com/; ComponentLink2Description: Datasheet; ComponentLink2URL: http://www.onsemi.com/pub_link/Collateral/1N6267A-D.PDF; ComponentLink3Description: Package Specification; ComponentLink3URL: http://www.onsemi.com/pub_link/Collateral/41A-04.PDF
footprint ONSC-MOSORB-2-41A-04 (AXIAL, 2-Leads, Diameter 5.05mm)
pins: 1 K, 2 A

## 1N6289AG
designator D?
1500 W Mosorb(TM) Zener Transient Voltage Suppressor, Unidirectional, 2-Pin MOSORB, Pb-Free, Bulk Box; Manufacturer: On Semiconductor; PartNumber: 1N6289AG; IR Max (uA): 5; PPK Max (W): 1500; V(BR) Typ (V): 56; DatasheetVersion: Rev. 7; PackageVersion: Rev. D, 01/2002; PackageReference: MOSORB-2-41A-04; PackageDescription: 2-Pin, Axial Lead, Diameter 5.05 mm; Supplier 1: Mouser; Supplier Part Number 1: N/A; Direction: Unidirectional; Packing: Bulk Box; RoHS: Pb-Free; Mounting Technology: Through Hole; ComponentLink1Description: Manufacturer URL; ComponentLink1URL: http://www.onsemi.com/; ComponentLink2Description: Datasheet; ComponentLink2URL: http://www.onsemi.com/pub_link/Collateral/1N6267A-D.PDF; ComponentLink3Description: Package Specification; ComponentLink3URL: http://www.onsemi.com/pub_link/Collateral/41A-04.PDF
footprint ONSC-MOSORB-2-41A-04 (AXIAL, 2-Leads, Diameter 5.05mm)
pins: 1 K, 2 A

## 1N6290A
designator D?
1500 W Mosorb(TM) Zener Transient Voltage Suppressor, Unidirectional, 2-Pin MOSORB, Bulk Box; Manufacturer: On Semiconductor; PartNumber: 1N6290A; IR Max (uA): 5; PPK Max (W): 1500; V(BR) Typ (V): 62; DatasheetVersion: Rev. 7; PackageVersion: Rev. D, 01/2002; PackageReference: MOSORB-2-41A-04; PackageDescription: 2-Pin, Axial Lead, Diameter 5.05 mm; Supplier 1: Digi-Key; Supplier Part Number 1: 1N6290AOS-ND; Direction: Unidirectional; Packing: Bulk Box; Mounting Technology: Through Hole; ComponentLink1Description: Manufacturer URL; ComponentLink1URL: http://www.onsemi.com/; ComponentLink2Description: Datasheet; ComponentLink2URL: http://www.onsemi.com/pub_link/Collateral/1N6267A-D.PDF; ComponentLink3Description: Package Specification; ComponentLink3URL: http://www.onsemi.com/pub_link/Collateral/41A-04.PDF
footprint ONSC-MOSORB-2-41A-04 (AXIAL, 2-Leads, Diameter 5.05mm)
pins: 1 K, 2 A

## 1N6290AG
designator D?
1500 W Mosorb(TM) Zener Transient Voltage Suppressor, Unidirectional, 2-Pin MOSORB, Pb-Free, Bulk Box; Manufacturer: On Semiconductor; PartNumber: 1N6290AG; IR Max (uA): 5; PPK Max (W): 1500; V(BR) Typ (V): 62; DatasheetVersion: Rev. 7; PackageVersion: Rev. D, 01/2002; PackageReference: MOSORB-2-41A-04; PackageDescription: 2-Pin, Axial Lead, Diameter 5.05 mm; Supplier 1: Digi-Key; Supplier Part Number 1: 1N6290AGOS-ND; Supplier 2: Farnell; Supplier Part Number 2: 1611209; Supplier 3: Newark; Supplier Part Number 3: 42K3038; Supplier 4: Newark; Supplier Part Number 4: 47T5738; Supplier 5: Mouser; Supplier Part Number 5: 863-1N6290AG; Direction: Unidirectional; Packing: Bulk Box; RoHS: Pb-Free; Mounting Technology: Through Hole; ComponentLink1Description: Manufacturer URL; ComponentLink1URL: http://www.onsemi.com/; ComponentLink2Description: Datasheet; ComponentLink2URL: http://www.onsemi.com/pub_link/Collateral/1N6267A-D.PDF; ComponentLink3Description: Package Specification; ComponentLink3URL: http://www.onsemi.com/pub_link/Collateral/41A-04.PDF
footprint ONSC-MOSORB-2-41A-04 (AXIAL, 2-Leads, Diameter 5.05mm)
pins: 1 K, 2 A

## 1N6291A
designator D?
1500 W Mosorb(TM) Zener Transient Voltage Suppressor, Unidirectional, 2-Pin MOSORB, Bulk Box; Manufacturer: On Semiconductor; PartNumber: 1N6291A; IR Max (uA): 5; PPK Max (W): 1500; V(BR) Typ (V): 68; DatasheetVersion: Rev. 7; PackageVersion: Rev. D, 01/2002; PackageReference: MOSORB-2-41A-04; PackageDescription: 2-Pin, Axial Lead, Diameter 5.05 mm; Supplier 1: Digi-Key; Supplier Part Number 1: 1N6291AOS-ND; Direction: Unidirectional; Packing: Bulk Box; Mounting Technology: Through Hole; ComponentLink1Description: Manufacturer URL; ComponentLink1URL: http://www.onsemi.com/; ComponentLink2Description: Datasheet; ComponentLink2URL: http://www.onsemi.com/pub_link/Collateral/1N6267A-D.PDF; ComponentLink3Description: Package Specification; ComponentLink3URL: http://www.onsemi.com/pub_link/Collateral/41A-04.PDF
footprint ONSC-MOSORB-2-41A-04 (AXIAL, 2-Leads, Diameter 5.05mm)
pins: 1 K, 2 A

## 1N6291AG
designator D?
1500 W Mosorb(TM) Zener Transient Voltage Suppressor, Unidirectional, 2-Pin MOSORB, Pb-Free, Bulk Box; Manufacturer: On Semiconductor; PartNumber: 1N6291AG; IR Max (uA): 5; PPK Max (W): 1500; V(BR) Typ (V): 68; DatasheetVersion: Rev. 7; PackageVersion: Rev. D, 01/2002; PackageReference: MOSORB-2-41A-04; PackageDescription: 2-Pin, Axial Lead, Diameter 5.05 mm; Supplier 1: Digi-Key; Supplier Part Number 1: 1N6291AGOS-ND; Supplier 2: Farnell; Supplier Part Number 2: 1147756; Supplier 3: Newark; Supplier Part Number 3: 42K3040; Supplier 4: Mouser; Supplier Part Number 4: 863-1N6291AG; Direction: Unidirectional; Packing: Bulk Box; RoHS: Pb-Free; Mounting Technology: Through Hole; ComponentLink1Description: Manufacturer URL; ComponentLink1URL: http://www.onsemi.com/; ComponentLink2Description: Datasheet; ComponentLink2URL: http://www.onsemi.com/pub_link/Collateral/1N6267A-D.PDF; ComponentLink3Description: Package Specification; ComponentLink3URL: http://www.onsemi.com/pub_link/Collateral/41A-04.PDF
footprint ONSC-MOSORB-2-41A-04 (AXIAL, 2-Leads, Diameter 5.05mm)
pins: 1 K, 2 A

## 1N6292A
designator D?
1500 W Mosorb(TM) Zener Transient Voltage Suppressor, Unidirectional, 2-Pin MOSORB, Bulk Box; Manufacturer: On Semiconductor; PartNumber: 1N6292A; IR Max (uA): 5; PPK Max (W): 1500; V(BR) Typ (V): 75; DatasheetVersion: Rev. 7; PackageVersion: Rev. D, 01/2002; PackageReference: MOSORB-2-41A-04; PackageDescription: 2-Pin, Axial Lead, Diameter 5.05 mm; Supplier 1: Digi-Key; Supplier Part Number 1: 1N6292A-ND; Direction: Unidirectional; Packing: Bulk Box; Mounting Technology: Through Hole; ComponentLink1Description: Manufacturer URL; ComponentLink1URL: http://www.onsemi.com/; ComponentLink2Description: Datasheet; ComponentLink2URL: http://www.onsemi.com/pub_link/Collateral/1N6267A-D.PDF; ComponentLink3Description: Package Specification; ComponentLink3URL: http://www.onsemi.com/pub_link/Collateral/41A-04.PDF
footprint ONSC-MOSORB-2-41A-04 (AXIAL, 2-Leads, Diameter 5.05mm)
pins: 1 K, 2 A

## 1N6292AG
designator D?
1500 W Mosorb(TM) Zener Transient Voltage Suppressor, Unidirectional, 2-Pin MOSORB, Pb-Free, Bulk Box; Manufacturer: On Semiconductor; PartNumber: 1N6292AG; IR Max (uA): 5; PPK Max (W): 1500; V(BR) Typ (V): 75; DatasheetVersion: Rev. 7; PackageVersion: Rev. D, 01/2002; PackageReference: MOSORB-2-41A-04; PackageDescription: 2-Pin, Axial Lead, Diameter 5.05 mm; Supplier 1: Digi-Key; Supplier Part Number 1: 1N6292AGOS-ND; Supplier 2: Newark; Supplier Part Number 2: 42K3042; Supplier 3: Mouser; Supplier Part Number 3: 863-1N6292AG; Direction: Unidirectional; Packing: Bulk Box; RoHS: Pb-Free; Mounting Technology: Through Hole; ComponentLink1Description: Manufacturer URL; ComponentLink1URL: http://www.onsemi.com/; ComponentLink2Description: Datasheet; ComponentLink2URL: http://www.onsemi.com/pub_link/Collateral/1N6267A-D.PDF; ComponentLink3Description: Package Specification; ComponentLink3URL: http://www.onsemi.com/pub_link/Collateral/41A-04.PDF
footprint ONSC-MOSORB-2-41A-04 (AXIAL, 2-Leads, Diameter 5.05mm)
pins: 1 K, 2 A

## 1N6293A
designator D?
1500 W Mosorb(TM) Zener Transient Voltage Suppressor, Unidirectional, 2-Pin MOSORB, Bulk Box; Manufacturer: On Semiconductor; PartNumber: 1N6293A; IR Max (uA): 5; PPK Max (W): 1500; V(BR) Typ (V): 82; DatasheetVersion: Rev. 7; PackageVersion: Rev. D, 01/2002; PackageReference: MOSORB-2-41A-04; PackageDescription: 2-Pin, Axial Lead, Diameter 5.05 mm; Direction: Unidirectional; Packing: Bulk Box; Mounting Technology: Through Hole; ComponentLink1Description: Manufacturer URL; ComponentLink1URL: http://www.onsemi.com/; ComponentLink2Description: Datasheet; ComponentLink2URL: http://www.onsemi.com/pub_link/Collateral/1N6267A-D.PDF; ComponentLink3Description: Package Specification; ComponentLink3URL: http://www.onsemi.com/pub_link/Collateral/41A-04.PDF
footprint ONSC-MOSORB-2-41A-04 (AXIAL, 2-Leads, Diameter 5.05mm)
pins: 1 K, 2 A

## 1N6293AG
designator D?
1500 W Mosorb(TM) Zener Transient Voltage Suppressor, Unidirectional, 2-Pin MOSORB, Pb-Free, Bulk Box; Manufacturer: On Semiconductor; PartNumber: 1N6293AG; IR Max (uA): 5; PPK Max (W): 1500; V(BR) Typ (V): 82; DatasheetVersion: Rev. 7; PackageVersion: Rev. D, 01/2002; PackageReference: MOSORB-2-41A-04; PackageDescription: 2-Pin, Axial Lead, Diameter 5.05 mm; Direction: Unidirectional; Packing: Bulk Box; RoHS: Pb-Free; Mounting Technology: Through Hole; ComponentLink1Description: Manufacturer URL; ComponentLink1URL: http://www.onsemi.com/; ComponentLink2Description: Datasheet; ComponentLink2URL: http://www.onsemi.com/pub_link/Collateral/1N6267A-D.PDF; ComponentLink3Description: Package Specification; ComponentLink3URL: http://www.onsemi.com/pub_link/Collateral/41A-04.PDF
footprint ONSC-MOSORB-2-41A-04 (AXIAL, 2-Leads, Diameter 5.05mm)
pins: 1 K, 2 A

## 1N6294A
designator D?
1500 W Mosorb(TM) Zener Transient Voltage Suppressor, Unidirectional, 2-Pin MOSORB, Bulk Box; Manufacturer: On Semiconductor; PartNumber: 1N6294A; IR Max (uA): 5; PPK Max (W): 1500; V(BR) Typ (V): 91; DatasheetVersion: Rev. 7; PackageVersion: Rev. D, 01/2002; PackageReference: MOSORB-2-41A-04; PackageDescription: 2-Pin, Axial Lead, Diameter 5.05 mm; Supplier 1: Digi-Key; Supplier Part Number 1: 1N6294A-ND; Supplier 2: Newark; Supplier Part Number 2: 09F4715; Direction: Unidirectional; Packing: Bulk Box; Mounting Technology: Through Hole; ComponentLink1Description: Manufacturer URL; ComponentLink1URL: http://www.onsemi.com/; ComponentLink2Description: Datasheet; ComponentLink2URL: http://www.onsemi.com/pub_link/Collateral/1N6267A-D.PDF; ComponentLink3Description: Package Specification; ComponentLink3URL: http://www.onsemi.com/pub_link/Collateral/41A-04.PDF
footprint ONSC-MOSORB-2-41A-04 (AXIAL, 2-Leads, Diameter 5.05mm)
pins: 1 K, 2 A

## 1N6294AG
designator D?
1500 W Mosorb(TM) Zener Transient Voltage Suppressor, Unidirectional, 2-Pin MOSORB, Pb-Free, Bulk Box; Manufacturer: On Semiconductor; PartNumber: 1N6294AG; IR Max (uA): 5; PPK Max (W): 1500; V(BR) Typ (V): 91; DatasheetVersion: Rev. 7; PackageVersion: Rev. D, 01/2002; PackageReference: MOSORB-2-41A-04; PackageDescription: 2-Pin, Axial Lead, Diameter 5.05 mm; Supplier 1: Digi-Key; Supplier Part Number 1: 1N6294AG-ND; Supplier 2: Mouser; Supplier Part Number 2: 863-1N6294AG; Direction: Unidirectional; Packing: Bulk Box; RoHS: Pb-Free; Mounting Technology: Through Hole; ComponentLink1Description: Manufacturer URL; ComponentLink1URL: http://www.onsemi.com/; ComponentLink2Description: Datasheet; ComponentLink2URL: http://www.onsemi.com/pub_link/Collateral/1N6267A-D.PDF; ComponentLink3Description: Package Specification; ComponentLink3URL: http://www.onsemi.com/pub_link/Collateral/41A-04.PDF
footprint ONSC-MOSORB-2-41A-04 (AXIAL, 2-Leads, Diameter 5.05mm)
pins: 1 K, 2 A

## 1N6373
designator D?
1500 W Peak Power, Mosorb(TM) Zener Transient Voltage Suppressor, 2-Pin MOSORB, Bulk Box; Manufacturer: On Semiconductor; PartNumber: 1N6373; Direction: Unidirectional; IR Max (uA): 300; PPK Max (W): 1500; DatasheetVersion: Rev. 5; PackageVersion: Rev. D, 01/2002; PackageReference: MOSORB-2-41A-04; PackageDescription: 2-Pin, Axial Lead, Diameter 5.05 mm; Supplier 1: Digi-Key; Supplier Part Number 1: 1N6373-ND; Packing: Bulk Box; Mounting Technology: Through Hole; ComponentLink1Description: Manufacturer URL; ComponentLink1URL: http://www.onsemi.com/; ComponentLink2Description: Datasheet; ComponentLink2URL: http://www.onsemi.com/pub_link/Collateral/1N6373-D.PDF; ComponentLink3Description: Package Specification; ComponentLink3URL: http://www.onsemi.com/pub_link/Collateral/41A-04.PDF
footprint ONSC-MOSORB-2-41A-04 (AXIAL, 2-Leads, Diameter 5.05mm)
pins: 1 K, 2 A

## 1N6373G
designator D?
1500 W Peak Power, Mosorb(TM) Zener Transient Voltage Suppressor, 2-Pin MOSORB, Pb-Free, Bulk Box; Manufacturer: On Semiconductor; PartNumber: 1N6373G; Direction: Unidirectional; IR Max (uA): 300; PPK Max (W): 1500; DatasheetVersion: Rev. 5; PackageVersion: Rev. D, 01/2002; PackageReference: MOSORB-2-41A-04; PackageDescription: 2-Pin, Axial Lead, Diameter 5.05 mm; Supplier 1: Digi-Key; Supplier Part Number 1: 1N6373GOS-ND; Supplier 2: Farnell; Supplier Part Number 2: 1459008; Supplier 3: Newark; Supplier Part Number 3: 42K3059; Supplier 4: Mouser; Supplier Part Number 4: 863-1N6373G; Packing: Bulk Box; RoHS: Pb-Free; Mounting Technology: Through Hole; ComponentLink1Description: Manufacturer URL; ComponentLink1URL: http://www.onsemi.com/; ComponentLink2Description: Datasheet; ComponentLink2URL: http://www.onsemi.com/pub_link/Collateral/1N6373-D.PDF; ComponentLink3Description: Package Specification; ComponentLink3URL: http://www.onsemi.com/pub_link/Collateral/41A-04.PDF
footprint ONSC-MOSORB-2-41A-04 (AXIAL, 2-Leads, Diameter 5.05mm)
pins: 1 K, 2 A

## 1N6376
designator D?
1500 W Peak Power, Mosorb(TM) Zener Transient Voltage Suppressor, 2-Pin MOSORB, Bulk Box; Manufacturer: On Semiconductor; PartNumber: 1N6376; Direction: Unidirectional; IR Max (uA): 2; PPK Max (W): 1500; DatasheetVersion: Rev. 5; PackageVersion: Rev. D, 01/2002; PackageReference: MOSORB-2-41A-04; PackageDescription: 2-Pin, Axial Lead, Diameter 5.05 mm; Supplier 1: Digi-Key; Supplier Part Number 1: 1N6376OS-ND; Packing: Bulk Box; Mounting Technology: Through Hole; ComponentLink1Description: Manufacturer URL; ComponentLink1URL: http://www.onsemi.com/; ComponentLink2Description: Datasheet; ComponentLink2URL: http://www.onsemi.com/pub_link/Collateral/1N6373-D.PDF; ComponentLink3Description: Package Specification; ComponentLink3URL: http://www.onsemi.com/pub_link/Collateral/41A-04.PDF
footprint ONSC-MOSORB-2-41A-04 (AXIAL, 2-Leads, Diameter 5.05mm)
pins: 1 K, 2 A